# Altium footprint library Main.PcbLib: 120 footprints (part 5 of 8)
Each footprint in its own frame and in the unit in brackets; x right, y up, seen from the top. Pads: shape width x height; smd on the part's side, far side on the other; paste and mask are expansions set on the pad; w line width, h text height; cw(c..) or ccw(c..) is an arc to the next point about the centre after c.
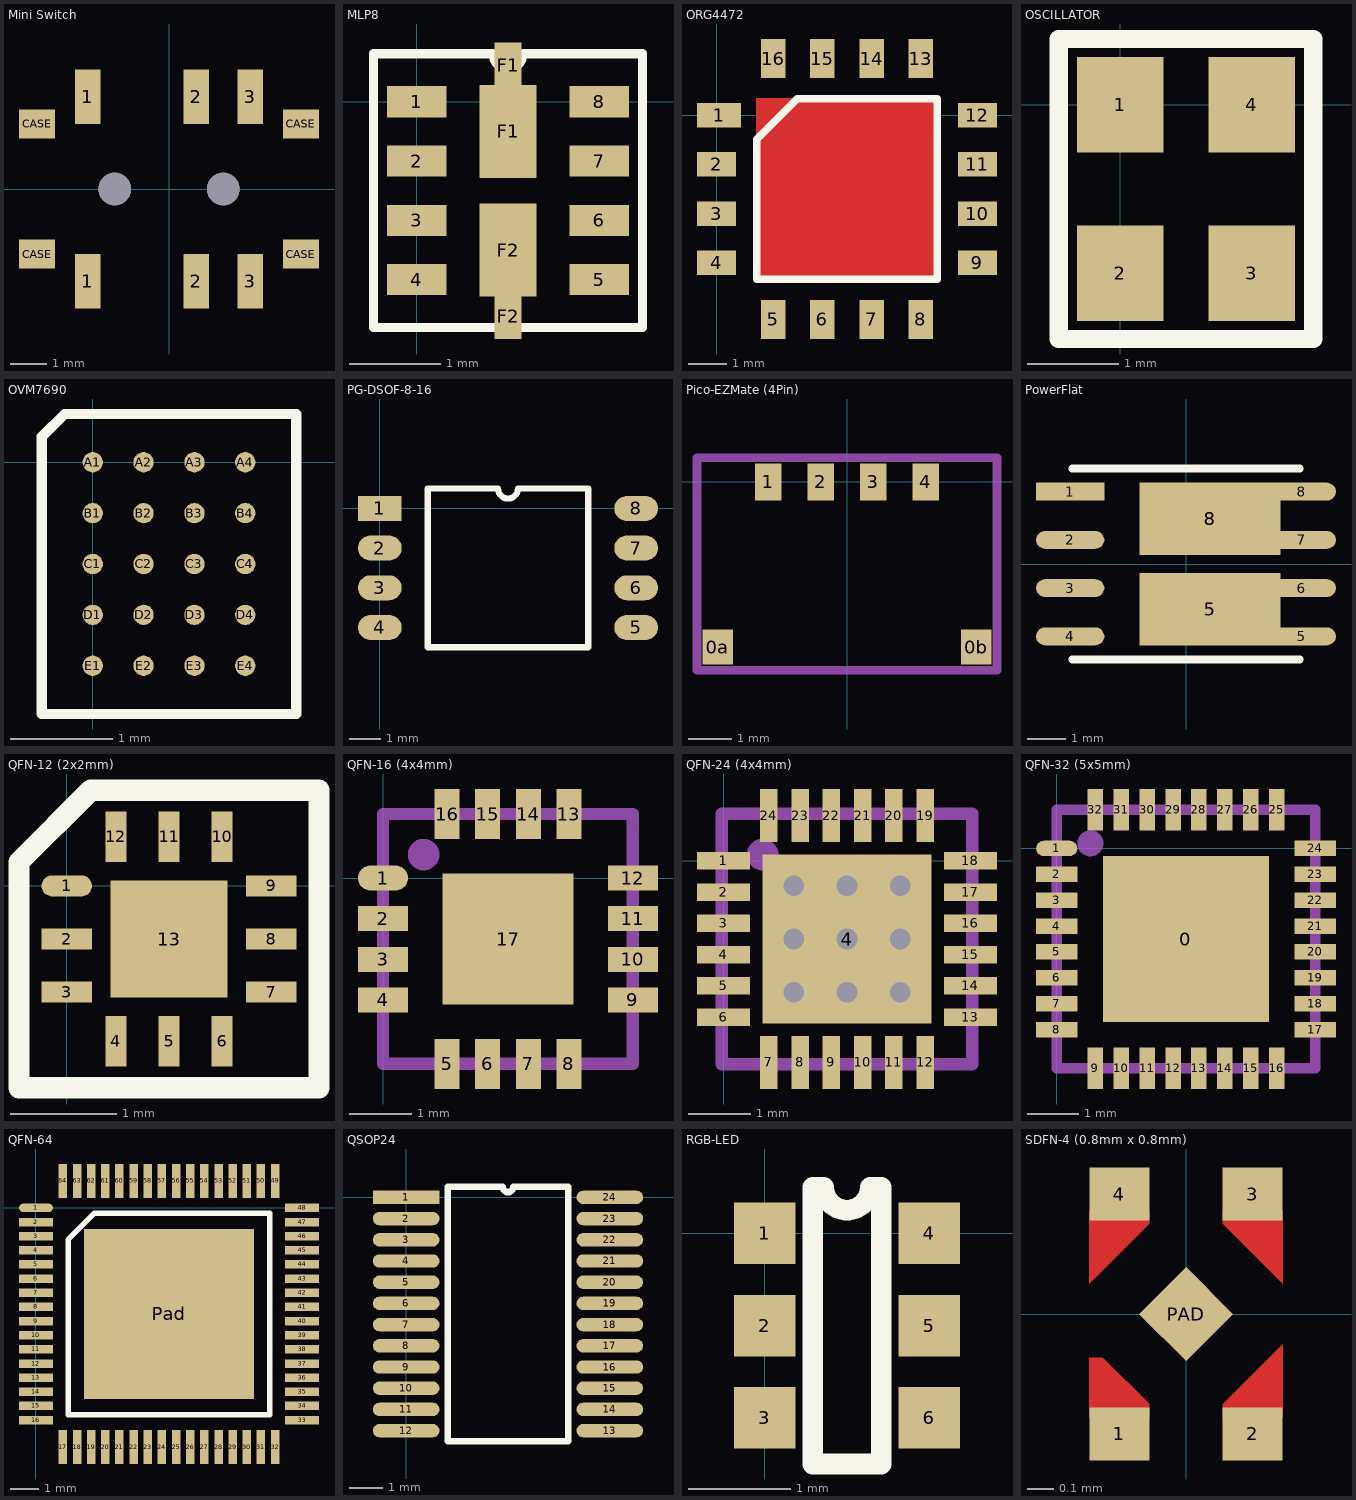
[diagram p4: the footprints below, top view; thin cyan lines are the x and y axes]

## Mini Switch [mm]
pads (12):
  rect 0.7x1.5 smd: 1(-2.25,-2.55) 1(-2.25,2.55) 2(0.75,-2.55) 2(0.75,2.55) 3(2.25,-2.55) 3(2.25,2.55)
  rect 1x0.8 smd: CASE(-3.65,-1.8) CASE(-3.65,1.8) CASE(3.65,-1.8) CASE(3.65,1.8)
  round 0.9 hole 0.9: ""(-1.5,0) ""(1.5,0)
3D body: height 1.39, standoff 0.1, extent -3.35,-2.05 3.35,2.05
3D body: height 2.9, standoff 1.4, extent 0.1,-1.85 1.4,-1.05
3D body: height 1.41, standoff 1.4, extent -3.35,-2.05 3.35,2.05

## MLP8 [mm]
pads (12):
  rect 0.65x0.34 smd: 1(0,0) 2(0,-0.65) 3(0,-1.3) 4(0,-1.95) 5(2,-1.95) 6(2,-1.3) 7(2,-0.65) 8(2,0)
  rect 0.63x1.02 smd: F1(1,-0.325) F2(1,-1.625)
  rect 0.3x0.5 smd: F1(1,0.4) F2(1,-2.35)
Top Overlay:
  lines w0.102: 0.825,0.525 -0.475,0.525 -0.475,-2.475 2.475,-2.475 2.475,0.525 1.175,0.525 ; 0.838,0.525 ccw(c1,0.525) 1.162,0.525
3D body: height 1, standoff 0, extent 0,-2.475 2,0.525

## ORG4472 [mil]
pads (16):
  rect 45x25 smd: 1(2.52,0)
  rect 40x25 smd: 2(0,-50) 3(0,-100) 4(0,-150) 9(265.94,-150) 10(265.94,-100) 11(265.94,-50) 12(265.94,0)
  rect 25x40 smd: 5(57.97,-207.97) 6(107.97,-207.97) 7(157.97,-207.97) 8(207.97,-207.97) 13(207.97,57.97) 14(157.97,57.97) 15(107.97,57.97) 16(57.97,57.97)
Top Layer:
  rectangle: 40,-168 226,18
Top Overlay:
  lines w7.87: 41.06,-166.91 224.88,-166.91 224.88,16.91 82.13,16.91 41.06,-24.15 41.06,-166.91
3D body: height 39.37, standoff 0, extent -4.79,-212.79 270.8,62.8

## OSCILLATOR [mm]
pads (4):
  rect 0.95x1.05 smd: 1(0,0) 2(0,-1.85) 3(1.45,-1.85) 4(1.45,0)
Top Overlay:
  lines w0.2: -0.675,-2.575 -0.675,0.725 2.125,0.725 2.125,-2.575 -0.675,-2.575
3D body: height 0.7, standoff 0, extent -0.25,-2.175 1.75,0.325

## OVM7690 [mm]
pads (20):
  round 0.2 smd: A1(0,0) A2(0.5,0) A3(1,0) A4(1.5,0) B1(0,-0.5) B2(0.5,-0.5) B3(1,-0.5) B4(1.5,-0.5) C1(0,-1) C2(0.5,-1) C3(1,-1) C4(1.5,-1) D1(0,-1.5) D2(0.5,-1.5) D3(1,-1.5) D4(1.5,-1.5) E1(0,-2) E2(0.5,-2) E3(1,-2) E4(1.5,-2)
Top Overlay:
  lines w0.102: -0.5,-2.475 2,-2.475 2,0.475 -0.275,0.475 -0.5,0.25 -0.5,-2.475
Mechanical 1:
  region: -0.5,0.475
3D body: height 0.8, standoff 0, extent -0.5,-2.475 2,0.475
3D body: height 2.46, standoff 0, extent -0.5,-2.1 2,0.1

## PG-DSOF-8-16 [mm]
pads (8):
  rect 1.4x0.8 smd: 1(0,0)
  oval 1.4x0.8 smd: 2(0,-1.27) 3(0,-2.54) 4(0,-3.81) 5(8.2,-3.81) 6(8.2,-2.54) 7(8.2,-1.27) 8(8.2,0)
Top Overlay:
  lines w0.2: 1.535,-4.445 6.665,-4.445 6.665,0.635 4.417,0.635 cw(c4.1,0.635) 3.782,0.635 1.535,0.635 1.535,-4.445
3D body: height 0.2, standoff 0, extent 7.6,-4.025 8.4,-3.625
3D body: height 0.2, standoff 0, extent 7.6,-2.75 8.4,-2.35
3D body: height 0.2, standoff 0, extent 7.6,-1.475 8.4,-1.075
3D body: height 0.2, standoff 0, extent 7.6,-0.4 8.4,0.4
3D body: height 0.2, standoff 0, extent -0.2,-4.025 0.6,-3.625
3D body: height 0.2, standoff 0, extent -0.2,-2.75 0.6,-2.35
3D body: height 0.2, standoff 0, extent -0.2,-1.475 0.6,-1.075
3D body: height 0.2, standoff 0, extent -0.2,-0.2 0.6,0.2
3D body: height 2.8, standoff 0, extent 0.6,-5.4 7.6,1.6

## Pico-EZMate (4Pin) [mm]
pads (6):
  rect 0.7x0.8 smd: 0a(-2.95,-3.775) 0b(2.95,-3.775)
  rect 0.6x0.85 smd: 1(-1.8,0) 2(-0.6,0) 3(0.6,0) 4(1.8,0)
Mechanical 29:
  lines w0.2: -3.425,-4.3 3.425,-4.3 3.425,0.55 -3.425,0.55 -3.425,-4.3
  text ".Designator" at -1.2,-2.35 h0.76
3D body: height 1.55, standoff 0, extent -3.3,-4.3 3.3,0.2

## PowerFlat [mm]
pads (10):
  rect 1.8x0.47 smd: 1(-3.052,1.905)
  oval 1.8x0.47 smd: 2(-3.052,0.635) 3(-3.052,-0.635) 4(-3.052,-1.905) 5(3.048,-1.905) 6(3.048,-0.635) 7(3.048,0.635) 8(3.048,1.905)
  rect 3.71x1.915 smd: 5(0.635,-1.194) 8(0.635,1.194)
Top Overlay:
  lines w0.2: -2.997,-2.515 2.997,-2.515 ; -2.997,2.515 2.997,2.515
3D body: height 0.83, standoff 0, extent -2.997,-2.489 2.997,2.489

## QFN-12 (2x2mm) [mm]
pads (13):
  oval 0.475x0.2 smd: 1(0,0)
  rect 0.475x0.2 smd: 2(0,-0.5) 3(0,-1) 7(1.925,-1) 8(1.925,-0.5) 9(1.925,0)
  rect 0.2x0.475 smd: 4(0.463,-1.462) 5(0.962,-1.462) 6(1.462,-1.462) 10(1.462,0.463) 11(0.962,0.463) 12(0.463,0.463)
  rect 1.1x1.1 smd: 13(0.962,-0.5)
Top Overlay:
  lines w0.2: -0.45,-1.9 -0.45,0.225 0.225,0.9 2.375,0.9 2.375,-1.9 -0.45,-1.9
3D body: height 0.6, standoff 0, extent -0.039,-1.501 1.961,0.499

## QFN-16 (4x4mm) [mm]
pads (17):
  oval 0.8x0.4 smd: 1(0,0)
  rect 0.8x0.4 smd: 2(0,-0.65) 3(0,-1.3) 4(0,-1.95) 9(4,-1.95) 10(4,-1.3) 11(4,-0.65) 12(4,0)
  rect 0.4x0.8 smd: 5(1.025,-2.975) 6(1.675,-2.975) 7(2.325,-2.975) 8(2.975,-2.975) 13(2.975,1.025) 14(2.325,1.025) 15(1.675,1.025) 16(1.025,1.025)
  rect 2.1x2.1 smd: 17(2,-0.975)
Mechanical 29:
  circle w0.254: c0.65,0.375 r0.125
  lines w0.2: 0,-2.975 0,1.025 4,1.025 4,-2.975 0,-2.975
  text ".Designator" at 0.9,-1.35 h0.76
3D body: height 0.85, standoff 0, extent 0,-2.975 4,1.025

## QFN-24 (4x4mm) [mm]
pads (25):
  rect 0.85x0.28 smd: 1(0,0) 2(0,-0.5) 3(0,-1) 4(0,-1.5) 5(0,-2) 6(0,-2.5) 13(3.95,-2.5) 14(3.95,-2) 15(3.95,-1.5) 16(3.95,-1) 17(3.95,-0.5) 18(3.95,0)
  rect 2.7x2.7 smd: 4(1.975,-1.25)
  rect 0.28x0.85 smd: 7(0.725,-3.225) 8(1.225,-3.225) 9(1.725,-3.225) 10(2.225,-3.225) 11(2.725,-3.225) 12(3.225,-3.225) 19(3.225,0.725) 20(2.725,0.725) 21(2.225,0.725) 22(1.725,0.725) 23(1.225,0.725) 24(0.725,0.725)
via 1.975,-1.25 diameter 0.686 hole 0.33
via 2.825,-2.1 diameter 0.686 hole 0.33
via 2.825,-1.25 diameter 0.686 hole 0.33
via 2.825,-0.4 diameter 0.686 hole 0.33
via 1.125,-2.1 diameter 0.686 hole 0.33
via 1.975,-2.1 diameter 0.686 hole 0.33
via 1.125,-1.25 diameter 0.686 hole 0.33
via 1.125,-0.4 diameter 0.686 hole 0.33
via 1.975,-0.4 diameter 0.686 hole 0.33
Mechanical 29:
  circle w0.254: c0.625,0.1 r0.125
  lines w0.2: -0.025,-3.25 -0.025,0.75 3.975,0.75 3.975,-3.25 -0.025,-3.25
  text ".Designator" at 0.75,-1.625 h0.76
3D body: height 1, standoff 0, extent -0.025,-3.25 3.975,0.75

## QFN-32 (5x5mm) [mm]
pads (33):
  rect 3.2x3.2 smd: 0(2.5,-1.75)
  oval 0.8x0.3 smd: 1(0,0)
  rect 0.8x0.3 smd: 2(0,-0.5) 3(0,-1) 4(0,-1.5) 5(0,-2) 6(0,-2.5) 7(0,-3) 8(0,-3.5) 17(5,-3.5) 18(5,-3) 19(5,-2.5) 20(5,-2) 21(5,-1.5) 22(5,-1) 23(5,-0.5) 24(5,0)
  rect 0.3x0.8 smd: 9(0.75,-4.25) 10(1.25,-4.25) 11(1.75,-4.25) 12(2.25,-4.25) 13(2.75,-4.25) 14(3.25,-4.25) 15(3.75,-4.25) 16(4.25,-4.25) 25(4.25,0.75) 26(3.75,0.75) 27(3.25,0.75) 28(2.75,0.75) 29(2.25,0.75) 30(1.75,0.75) 31(1.25,0.75) 32(0.75,0.75)
Mechanical 29:
  circle w0.254: c0.65,0.1 r0.125
  lines w0.2: 0,-4.25 5,-4.25 5,0.75 0,0.75 0,-4.25
  text ".Designator" at 1.525,-2.125 h0.76
3D body: height 0.55, standoff 0, extent 0,-4.25 5,0.75

## QFN-64 [mm]
pads (65):
  oval 1.2x0.3 smd: 1(0,0)
  rect 1.2x0.3 smd: 2(0,-0.5) 3(0,-1) 4(0,-1.5) 5(0,-2) 6(0,-2.5) 7(0,-3) 8(0,-3.5) 9(0,-4) 10(0,-4.5) 11(0,-5) 12(0,-5.5) 13(0,-6) 14(0,-6.5) 15(0,-7) 16(0,-7.5) 33(9.4,-7.5) 34(9.4,-7) 35(9.4,-6.5) 36(9.4,-6) 37(9.4,-5.5) 38(9.4,-5) 39(9.4,-4.5) 40(9.4,-4) 41(9.4,-3.5) 42(9.4,-3) 43(9.4,-2.5) 44(9.4,-2) 45(9.4,-1.5) 46(9.4,-1) 47(9.4,-0.5) 48(9.4,0)
  rect 0.3x1.2 smd: 17(0.95,-8.45) 18(1.45,-8.45) 19(1.95,-8.45) 20(2.45,-8.45) 21(2.95,-8.45) 22(3.45,-8.45) 23(3.95,-8.45) 24(4.45,-8.45) 25(4.95,-8.45) 26(5.45,-8.45) 27(5.95,-8.45) 28(6.45,-8.45) 29(6.95,-8.45) 30(7.45,-8.45) 31(7.95,-8.45) 32(8.45,-8.45) 49(8.45,0.95) 50(7.95,0.95) 51(7.45,0.95) 52(6.95,0.95) 53(6.45,0.95) 54(5.95,0.95) 55(5.45,0.95) 56(4.95,0.95) 57(4.45,0.95) 58(3.95,0.95) 59(3.45,0.95) 60(2.95,0.95) 61(2.45,0.95) 62(1.95,0.95) 63(1.45,0.95) 64(0.95,0.95)
  rect 6x6 smd: Pad(4.7,-3.75)
Top Overlay:
  lines w0.2: 1.135,-7.315 8.265,-7.315 8.265,-0.185 2.07,-0.185 1.135,-1.12 1.135,-7.315
3D body: height 1, standoff 0, extent 0.2,-8.25 9.2,0.75

## QSOP24 [mm]
pads (24):
  rect 2x0.4 smd: 1(0,0)
  oval 2x0.4 smd: 2(0,-0.635) 3(0,-1.27) 4(0,-1.905) 5(0,-2.54) 6(0,-3.175) 7(0,-3.81) 8(0,-4.445) 9(0,-5.08) 10(0,-5.715) 11(0,-6.35) 12(0,-6.985) 13(6.1,-6.985) 14(6.1,-6.35) 15(6.1,-5.715) 16(6.1,-5.08) 17(6.1,-4.445) 18(6.1,-3.81) 19(6.1,-3.175) 20(6.1,-2.54) 21(6.1,-1.905) 22(6.1,-1.27) 23(6.1,-0.635) 24(6.1,0)
Top Overlay:
  lines w0.2: 1.25,-7.302 4.85,-7.302 4.85,0.318 3.209,0.318 cw(c3.05,0.318) 2.891,0.318 1.25,0.318 1.25,-7.302
3D body: height 0.21, standoff 0, extent 0.05,-0.125 1.1,0.125
3D body: height 0.21, standoff 0, extent 0.05,-0.75 1.1,-0.5
3D body: height 0.21, standoff 0, extent 0.05,-1.4 1.1,-1.15
3D body: height 1.7, standoff 0.1, extent 1.1,-7.825 5,0.825
3D body: height 0.21, standoff 0, extent 0.05,-2.025 1.1,-1.775
3D body: height 0.21, standoff 0, extent 0.05,-4.575 1.1,-4.325
3D body: height 0.21, standoff 0, extent 0.05,-3.95 1.1,-3.7
3D body: height 0.21, standoff 0, extent 0.05,-3.3 1.1,-3.05
3D body: height 0.21, standoff 0, extent 0.05,-2.675 1.1,-2.425
3D body: height 0.21, standoff 0, extent 0.05,-7.1 1.1,-6.85
3D body: height 0.21, standoff 0, extent 0.05,-6.475 1.1,-6.225
3D body: height 0.21, standoff 0, extent 0.05,-5.825 1.1,-5.575
3D body: height 0.21, standoff 0, extent 0.05,-5.2 1.1,-4.95
3D body: height 0.21, standoff 0, extent 4.998,-2.037 6.048,-1.787
3D body: height 0.21, standoff 0, extent 4.998,-1.412 6.048,-1.162
3D body: height 0.21, standoff 0, extent 4.998,-0.762 6.048,-0.512
3D body: height 0.21, standoff 0, extent 4.998,-0.137 6.048,0.113
3D body: height 0.21, standoff 0, extent 4.998,-4.562 6.048,-4.312
3D body: height 0.21, standoff 0, extent 4.998,-3.937 6.048,-3.687
3D body: height 0.21, standoff 0, extent 4.998,-3.287 6.048,-3.037
3D body: height 0.21, standoff 0, extent 4.998,-2.662 6.048,-2.412
3D body: height 0.21, standoff 0, extent 4.998,-5.212 6.048,-4.962
3D body: height 0.21, standoff 0, extent 4.998,-5.837 6.048,-5.587
3D body: height 0.21, standoff 0, extent 4.998,-6.487 6.048,-6.237
3D body: height 0.21, standoff 0, extent 4.998,-7.112 6.048,-6.862

## RGB-LED [mm]
pads (6):
  rect 0.6x0.6 smd: 1(0,0) 2(0,-0.9) 3(0,-1.8) 4(1.6,0) 5(1.6,-0.9) 6(1.6,-1.8)
Top Overlay:
  lines w0.2: 0.465,-2.25 0.465,0.45 0.575,0.45 ccw(c0.8,0.45) 1.025,0.45 1.135,0.45 1.135,-2.25 0.465,-2.25
3D body: height 0.35, standoff 0, extent 0.275,-1.7 1.325,-0.1
3D body: height 0.15, standoff 0, extent 0,-1.7 1.6,-0.1

## SDFN-4 (0.8mm x 0.8mm) [mm]
pads (5):
  rect 0.225x0.2 smd mask+0.05: 1(-0.25,-0.45) 2(0.25,-0.45) 3(0.25,0.45) 4(-0.25,0.45)
  rect 0.25x0.25 smd rot 45 mask+0.05: PAD(0,0)
Top Layer:
  region: 0.363,0.387 0.138,0.387 0.138,0.337 0.362,0.113 0.363,0.113
  region: -0.363,-0.388 -0.138,-0.388 -0.138,-0.337 -0.313,-0.163 -0.363,-0.163
  region: -0.362,0.387 -0.137,0.387 -0.137,0.337 -0.362,0.113
  region: 0.362,-0.387 0.137,-0.387 0.137,-0.337 0.362,-0.113
3D body: height 0.38, standoff 0, extent -0.4,-0.4 0.4,0.4